# Altium footprint library CONN_HDR_2MM_ST.PcbLib: 49 footprints (part 1 of 4)
Each footprint in its own frame and in the unit in brackets; x right, y up, seen from the top. Pads: shape width x height; smd on the part's side, far side on the other; paste and mask are expansions set on the pad; w line width, h text height; cw(c..) or ccw(c..) is an arc to the next point about the centre after c.
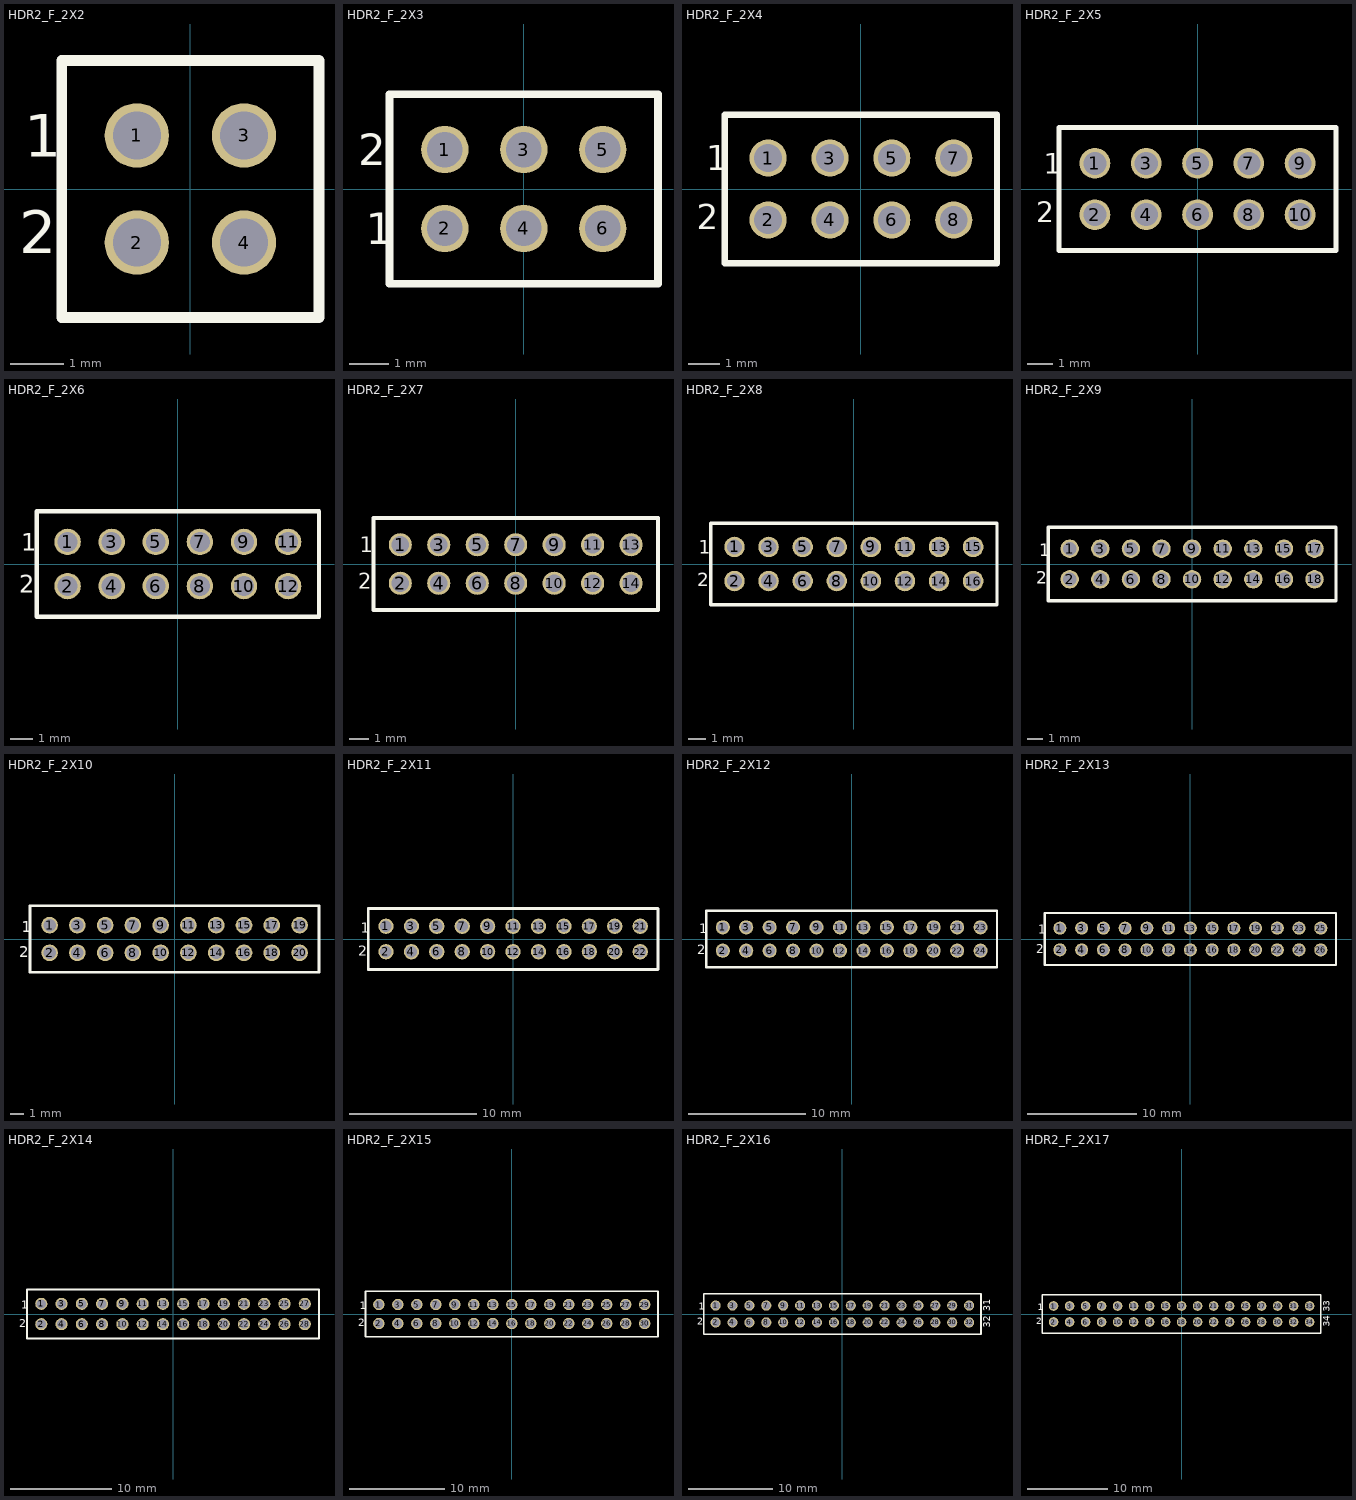
[diagram p0: the footprints below, top view; thin cyan lines are the x and y axes]

## HDR2_F_2X2 [mm] "Connector; Header; 2mm Pitch"
pads (4):
  round 1.2 / inner round 1.2 / far side oval 1.2x1.6 hole 0.9: 1(-1,1) 2(-1,-1) 3(1,1) 4(1,-1)
Top Overlay:
  lines w0.2: -2.4,-2.4 2.4,-2.4 2.4,2.4 -2.4,2.4 -2.4,-2.4
  text "2" at -3.2,-1.2 h0.8
  text "1" at -3.1,0.6 h0.8
3D body "female_header_a-bl200-dg-g04d.stp": height 4, standoff -2.8, extent -2.25,-2.25 2.25,2.25

## HDR2_F_2X3 [mm] "Connector; Header; 2mm Pitch"
pads (6):
  round 1.2 / inner round 1.2 / far side oval 1.2x1.6 hole 0.9: 1(-2,1) 2(-2,-1) 3(0,1) 4(0,-1) 5(2,1) 6(2,-1)
Top Overlay:
  lines w0.2: -3.4,-2.4 3.4,-2.4 3.4,2.4 -3.4,2.4 -3.4,-2.4
  text "1" at -4,-1.4 h0.8
  text "2" at -4.2,0.6 h0.8
3D body "female_header_a-bl200-dg-g06d.stp": height 4, standoff -2.8, extent -3.25,-2.25 3.25,2.25

## HDR2_F_2X4 [mm] "Connector; Header; 2mm Pitch"
pads (8):
  round 1.2 / inner round 1.2 / far side oval 1.2x1.6 hole 0.9: 1(-3,1) 2(-3,-1) 3(-1,1) 4(-1,-1) 5(1,1) 6(1,-1) 7(3,1) 8(3,-1)
Top Overlay:
  lines w0.2: -4.4,-2.4 -4.4,2.4 4.4,2.4 4.4,-2.4 -4.4,-2.4
  text "2" at -5.3,-1.3 h0.8
  text "1" at -5,0.6 h0.8
3D body "female_header_a-bl200-dg-g08d.stp": height 4, standoff -2.8, extent -4.25,-2.25 4.25,2.25

## HDR2_F_2X5 [mm] "Connector; Header; 2mm Pitch"
pads (10):
  round 1.2 / inner round 1.2 / far side oval 1.2x1.6 hole 0.9: 1(-4,1) 2(-4,-1) 3(-2,1) 4(-2,-1) 5(0,1) 6(0,-1) 7(2,1) 8(2,-1) 9(4,1) 10(4,-1)
Top Overlay:
  lines w0.2: -5.4,-2.4 5.4,-2.4 5.4,2.4 -5.4,2.4 -5.4,-2.4
  text "1" at -6,0.6 h0.8
  text "2" at -6.3,-1.3 h0.8
3D body "female_header_a-bl200-dg-g10d.stp": height 4, standoff -2.8, extent -5.25,-2.25 5.25,2.25

## HDR2_F_2X6 [mm] "Connector; Header; 2mm Pitch"
pads (12):
  round 1.2 / inner round 1.2 / far side oval 1.2x1.6 hole 0.9: 1(-5,1) 2(-5,-1) 3(-3,1) 4(-3,-1) 5(-1,1) 6(-1,-1) 7(1,1) 8(1,-1) 9(3,1) 10(3,-1) 11(5,1) 12(5,-1)
Top Overlay:
  lines w0.2: -6.4,-2.4 -6.4,2.4 6.4,2.4 6.4,-2.4 -6.4,-2.4
  text "2" at -7.2,-1.3 h0.8
  text "1" at -7.1,0.6 h0.8
3D body "female_header_a-bl200-dg-g04d.stp": height 4, standoff -2.8, extent 1.75,-2.25 6.25,2.25
3D body "female_header_a-bl200-dg-g08d.stp": height 4, standoff -2.8, extent -6.25,-2.25 2.25,2.25

## HDR2_F_2X7 [mm] "Connector; Header; 2mm Pitch"
pads (14):
  round 1.2 / inner round 1.2 / far side oval 1.2x1.6 hole 0.9: 1(-6,1) 2(-6,-1) 3(-4,1) 4(-4,-1) 5(-2,1) 6(-2,-1) 7(0,1) 8(0,-1) 9(2,1) 10(2,-1) 11(4,1) 12(4,-1) 13(6,1) 14(6,-1)
Top Overlay:
  lines w0.2: -7.4,-2.4 -7.4,2.4 7.4,2.4 7.4,-2.4 -7.4,-2.4
  text "2" at -8.2,-1.3 h0.8
  text "1" at -8.1,0.6 h0.8
3D body "female_header_a-bl200-dg-g08d.stp": height 4, standoff -2.8, extent -7.25,-2.25 1.25,2.25
3D body "female_header_a-bl200-dg-g06d.stp": height 4, standoff -2.8, extent 0.75,-2.25 7.25,2.25

## HDR2_F_2X8 [mm] "Connector; Header; 2mm Pitch"
pads (16):
  round 1.2 / inner round 1.2 / far side oval 1.2x1.6 hole 0.9: 1(-7,1) 2(-7,-1) 3(-5,1) 4(-5,-1) 5(-3,1) 6(-3,-1) 7(-1,1) 8(-1,-1) 9(1,1) 10(1,-1) 11(3,1) 12(3,-1) 13(5,1) 14(5,-1) 15(7,1) 16(7,-1)
Top Overlay:
  lines w0.2: -8.4,-2.4 8.4,-2.4 8.4,2.4 -8.4,2.4 -8.4,-2.4
  text "1" at -9.1,0.6 h0.8
  text "2" at -9.2,-1.3 h0.8
3D body "female_header_a-bl200-dg-g16d.stp": height 4, standoff -2.8, extent -8.25,-2.25 8.25,2.25

## HDR2_F_2X9 [mm] "Connector; Header; 2mm Pitch"
pads (18):
  round 1.2 / inner round 1.2 / far side oval 1.2x1.6 hole 0.9: 1(-8,1) 2(-8,-1) 3(-6,1) 4(-6,-1) 5(-4,1) 6(-4,-1) 7(-2,1) 8(-2,-1) 9(0,1) 10(0,-1) 11(2,1) 12(2,-1) 13(4,1) 14(4,-1) 15(6,1) 16(6,-1) 17(8,1) 18(8,-1)
Top Overlay:
  lines w0.2: -9.4,-2.4 9.4,-2.4 9.4,2.4 -9.4,2.4 -9.4,-2.4
  text "1" at -10,0.5 h0.8
  text "2" at -10.2,-1.3 h0.8
3D body "female_header_a-bl200-dg-g08d.stp": height 4, standoff -2.8, extent -9.25,-2.25 -0.75,2.25
3D body "female_header_a-bl200-dg-g10d.stp": height 4, standoff -2.8, extent -1.25,-2.25 9.25,2.25

## HDR2_F_2X10 [mm] "Connector; Header; 2mm Pitch"
pads (20):
  round 1.2 / inner round 1.2 / far side oval 1.2x1.6 hole 0.9: 1(-9,1) 2(-9,-1) 3(-7,1) 4(-7,-1) 5(-5,1) 6(-5,-1) 7(-3,1) 8(-3,-1) 9(-1,1) 10(-1,-1) 11(1,1) 12(1,-1) 13(3,1) 14(3,-1) 15(5,1) 16(5,-1) 17(7,1) 18(7,-1) 19(9,1) 20(9,-1)
Top Overlay:
  lines w0.2: -10.4,-2.4 -10.4,2.4 10.4,2.4 10.4,-2.4 -10.4,-2.4
  text "2" at -11.2,-1.3 h0.8
  text "1" at -11,0.5 h0.8
3D body "female_header_a-bl200-dg-g20d.stp": height 4, standoff -2.8, extent -10.25,-2.25 10.25,2.25

## HDR2_F_2X11 [mm] "Connector; Header; 2mm Pitch"
pads (22):
  round 1.2 / inner round 1.2 / far side oval 1.2x1.6 hole 0.9: 1(-10,1) 2(-10,-1) 3(-8,1) 4(-8,-1) 5(-6,1) 6(-6,-1) 7(-4,1) 8(-4,-1) 9(-2,1) 10(-2,-1) 11(0,1) 12(0,-1) 13(2,1) 14(2,-1) 15(4,1) 16(4,-1) 17(6,1) 18(6,-1) 19(8,1) 20(8,-1) 21(10,1) 22(10,-1)
Top Overlay:
  lines w0.2: -11.4,-2.4 11.4,-2.4 11.4,2.4 -11.4,2.4 -11.4,-2.4
  text "1" at -12,0.5 h0.8
  text "2" at -12.2,-1.3 h0.8
3D body "female_header_a-bl200-dg-g16d.stp": height 4, standoff -2.8, extent -11.25,-2.25 5.25,2.25
3D body "female_header_a-bl200-dg-g06d.stp": height 4, standoff -2.8, extent 4.75,-2.25 11.25,2.25

## HDR2_F_2X12 [mm] "Connector; Header; 2mm Pitch"
pads (24):
  round 1.2 / inner round 1.2 / far side oval 1.2x1.6 hole 0.9: 1(-11,1) 2(-11,-1) 3(-9,1) 4(-9,-1) 5(-7,1) 6(-7,-1) 7(-5,1) 8(-5,-1) 9(-3,1) 10(-3,-1) 11(-1,1) 12(-1,-1) 13(1,1) 14(1,-1) 15(3,1) 16(3,-1) 17(5,1) 18(5,-1) 19(7,1) 20(7,-1) 21(9,1) 22(9,-1) 23(11,1) 24(11,-1)
Top Overlay:
  lines w0.2: -12.4,-2.4 12.4,-2.4 12.4,2.4 -12.4,2.4 -12.4,-2.4
  text "1" at -13,0.5 h0.8
  text "2" at -13.2,-1.3 h0.8
3D body "female_header_a-bl200-dg-g16d.stp": height 4, standoff -2.8, extent -12.25,-2.25 4.25,2.25
3D body "female_header_a-bl200-dg-g08d.stp": height 4, standoff -2.8, extent 3.75,-2.25 12.25,2.25

## HDR2_F_2X13 [mm] "Connector; Header; 2mm Pitch"
pads (26):
  round 1.2 / inner round 1.2 / far side oval 1.2x1.6 hole 0.9: 1(-12,1) 2(-12,-1) 3(-10,1) 4(-10,-1) 5(-8,1) 6(-8,-1) 7(-6,1) 8(-6,-1) 9(-4,1) 10(-4,-1) 11(-2,1) 12(-2,-1) 13(0,1) 14(0,-1) 15(2,1) 16(2,-1) 17(4,1) 18(4,-1) 19(6,1) 20(6,-1) 21(8,1) 22(8,-1) 23(10,1) 24(10,-1) 25(12,1) 26(12,-1)
Top Overlay:
  lines w0.2: -13.4,-2.4 13.4,-2.4 13.4,2.4 -13.4,2.4 -13.4,-2.4
  text "1" at -14,0.5 h0.8
  text "2" at -14.2,-1.3 h0.8
3D body "female_header_a-bl200-dg-g06d.stp": height 4, standoff -2.8, extent 6.75,-2.25 13.25,2.25
3D body "female_header_a-bl200-dg-g20d.stp": height 4, standoff -2.8, extent -13.25,-2.25 7.25,2.25

## HDR2_F_2X14 [mm] "Connector; Header; 2mm Pitch"
pads (28):
  round 1.2 / inner round 1.2 / far side oval 1.2x1.6 hole 0.9: 1(-13,1) 2(-13,-1) 3(-11,1) 4(-11,-1) 5(-9,1) 6(-9,-1) 7(-7,1) 8(-7,-1) 9(-5,1) 10(-5,-1) 11(-3,1) 12(-3,-1) 13(-1,1) 14(-1,-1) 15(1,1) 16(1,-1) 17(3,1) 18(3,-1) 19(5,1) 20(5,-1) 21(7,1) 22(7,-1) 23(9,1) 24(9,-1) 25(11,1) 26(11,-1) 27(13,1) 28(13,-1)
Top Overlay:
  lines w0.2: -14.4,-2.4 14.4,-2.4 14.4,2.4 -14.4,2.4 -14.4,-2.4
  text "1" at -15,0.5 h0.8
  text "2" at -15.2,-1.3 h0.8
3D body "female_header_a-bl200-dg-g08d.stp": height 4, standoff -2.8, extent 5.75,-2.25 14.25,2.25
3D body "female_header_a-bl200-dg-g20d.stp": height 4, standoff -2.8, extent -14.25,-2.25 6.25,2.25

## HDR2_F_2X15 [mm] "Connector; Header; 2mm Pitch"
pads (30):
  round 1.2 / inner round 1.2 / far side oval 1.2x1.6 hole 0.9: 1(-14,1) 2(-14,-1) 3(-12,1) 4(-12,-1) 5(-10,1) 6(-10,-1) 7(-8,1) 8(-8,-1) 9(-6,1) 10(-6,-1) 11(-4,1) 12(-4,-1) 13(-2,1) 14(-2,-1) 15(0,1) 16(0,-1) 17(2,1) 18(2,-1) 19(4,1) 20(4,-1) 21(6,1) 22(6,-1) 23(8,1) 24(8,-1) 25(10,1) 26(10,-1) 27(12,1) 28(12,-1) 29(14,1) 30(14,-1)
Top Overlay:
  lines w0.2: -15.4,-2.4 15.4,-2.4 15.4,2.4 -15.4,2.4 -15.4,-2.4
  text "1" at -16,0.5 h0.8
  text "2" at -16.2,-1.3 h0.8
3D body "female_header_a-bl200-dg-g20d.stp": height 4, standoff -2.8, extent -15.25,-2.25 5.25,2.25
3D body "female_header_a-bl200-dg-g10d.stp": height 4, standoff -2.8, extent 4.75,-2.25 15.25,2.25

## HDR2_F_2X16 [mm] "Connector; Header; 2mm Pitch"
pads (32):
  round 1.2 / inner round 1.2 / far side oval 1.2x1.6 hole 0.9: 1(-15,1) 2(-15,-1) 3(-13,1) 4(-13,-1) 5(-11,1) 6(-11,-1) 7(-9,1) 8(-9,-1) 9(-7,1) 10(-7,-1) 11(-5,1) 12(-5,-1) 13(-3,1) 14(-3,-1) 15(-1,1) 16(-1,-1) 17(1,1) 18(1,-1) 19(3,1) 20(3,-1) 21(5,1) 22(5,-1) 23(7,1) 24(7,-1) 25(9,1) 26(9,-1) 27(11,1) 28(11,-1) 29(13,1) 30(13,-1) 31(15,1) 32(15,-1)
Top Overlay:
  lines w0.2: -16.4,-2.4 16.4,-2.4 16.4,2.4 -16.4,2.4 -16.4,-2.4
  text "1" at -17,0.5 h0.8
  text "2" at -17.2,-1.3 h0.8
  text "32" at 17.5,-1.6 h0.8
  text "31" at 17.5,0.3 h0.8
3D body "female_header_a-bl200-dg-g08d.stp": height 4, standoff -2.8, extent 3.75,-2.25 12.25,2.25
3D body "female_header_a-bl200-dg-g04d.stp": height 4, standoff -2.8, extent 11.75,-2.25 16.25,2.25
3D body "female_header_a-bl200-dg-g20d.stp": height 4, standoff -2.8, extent -16.25,-2.25 4.25,2.25

## HDR2_F_2X17 [mm] "Connector; Header; 2mm Pitch"
pads (34):
  round 1.2 / inner round 1.2 / far side oval 1.2x1.6 hole 0.9: 1(-16,1) 2(-16,-1) 3(-14,1) 4(-14,-1) 5(-12,1) 6(-12,-1) 7(-10,1) 8(-10,-1) 9(-8,1) 10(-8,-1) 11(-6,1) 12(-6,-1) 13(-4,1) 14(-4,-1) 15(-2,1) 16(-2,-1) 17(0,1) 18(0,-1) 19(2,1) 20(2,-1) 21(4,1) 22(4,-1) 23(6,1) 24(6,-1) 25(8,1) 26(8,-1) 27(10,1) 28(10,-1) 29(12,1) 30(12,-1) 31(14,1) 32(14,-1) 33(16,1) 34(16,-1)
Top Overlay:
  lines w0.2: -17.4,-2.4 -17.4,2.4 17.4,2.4 17.4,-2.4 -17.4,-2.4
  text "33" at 18.5,0.3 h0.8
  text "34" at 18.5,-1.6 h0.8
  text "2" at -18.2,-1.3 h0.8
  text "1" at -18,0.5 h0.8
3D body "female_header_a-bl200-dg-g20d.stp": height 4, standoff -2.8, extent -17.25,-2.25 3.25,2.25
3D body "female_header_a-bl200-dg-g08d.stp": height 4, standoff -2.8, extent 2.75,-2.25 11.25,2.25
3D body "female_header_a-bl200-dg-g06d.stp": height 4, standoff -2.8, extent 10.75,-2.25 17.25,2.25